# EAGLE library part DRA808M (library custom)
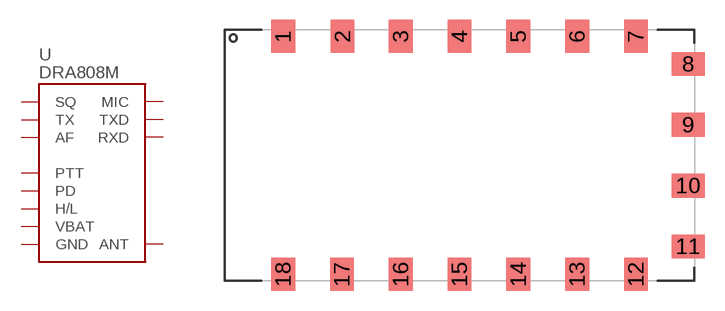
[diagram p88: symbol with the pads of DRA808M; footprint DRA808M]

Designator prefix U

## DRA808M  [DRA808M]
1  SQ
2  TX
3  AF
5  PTT
6  PD
7  H/L
8  VBAT
9  GND
10  GND
12  ANT
16  RXD
17  TXD
18  MIC

## Footprint DRA808M (pad centres in mm)
smd 1.8 x 2.5: 1 -13.35,9; 2 -8.85,9; 3 -4.45,9; 4 0,9; 5 4.45,9; 6 8.9,9; 7 13.35,9; 12 13.35,-9; 13 8.9,-9; 14 4.45,-9; 15 0,-9; 16 -4.45,-9; 17 -8.9,-9; 18 -13.35,-9
smd 2.5 x 1.8: 8 17.3,6.9; 9 17.3,2.3; 10 17.3,-2.3; 11 17.3,-6.9